# Altium schematic symbol library Components - 25.04.20 - 17.11.SchLib: 1 symbol
Pins are listed as number, name and electrical type; pins without a type are passive.

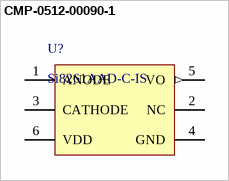
[diagram p0: symbol CMP-0512-00090-1]

## CMP-0512-00090-1
designator U?, comment Si8261AAD-C-IS
Led Emulator Input, 0.6 A Isolated Gate Drivers, 5 to 30 V Driver Supply, 5 kVRMS Isolation Rating, -40 to 125 degC, 6-pin SOP; Manufacturer: Silicon Labs; 10kV surge: TRUE; Sub-Family: ISOdrivers; Max. Prop. Delay (ns): 60; UVLO Voltage: 5 V; Overlap Protection & Dead Time Control: FALSE; Driver Supply: 5 to 30 V; Isolation Rating (Input-Output, kVrms): 5; ComponentLink1Description: Manufacturer URL; Mounting Technology: Surface Mount; ComponentLink2URL: http://www.silabs.com/Support%20Documents/TechnicalDocs/Si826x.pdf; DatasheetVersion: Rev. 0.9; ComponentLink2Description: Datasheet; ComponentLink3URL: http://www.silabs.com/Support%20Documents/TechnicalDocs/Si826x.pdf; ComponentLink3Description: Package Specification; PackageReference: SDIP6; ComponentLink1URL: http://www.silabs.com/; PartNumber: Si8261AAD-C-IS; PackageDescription: 6-Pin SDIP, Body 4.58 x 7.5 mm, Pitch 1.27 mm
footprint SLAB-SDIP6_L (SOP, 6-Leads, Body 7.5x4.58mm, Pitch 1.27mm, IPC High Density)
footprint SLAB-SDIP6_M (SOP, 6-Leads, Body 7.5x4.58mm, Pitch 1.27mm, IPC Low Density)
footprint SLAB-SDIP6_N (SOP, 6-Leads, Body 7.5x4.58mm, Pitch 1.27mm, IPC Medium Density)
pins: 1 ANODE "Anode of LED emulator. VO follows the signal applied to this input with respect to the CATHODE input.", 2 NC "No connect.", 3 CATHODE "Cathode of LED emulator. VO follows the signal applied to ANODE with respect to this input.", 4 GND (power) "External MOSFET source connection and ground reference for VDD. This terminal is typically connected to ground but may be tied to a negative or positive voltage.", 5 VO (out) "Output signal.", 6 VDD (power) "Output-side power supply input referenced to GND (30 V max)."